# Altium footprint library QF.PcbLib: 196 footprints (part 5 of 13)
Each footprint in its own frame and in the unit in brackets; x right, y up, seen from the top. Pads: shape width x height; smd on the part's side, far side on the other; paste and mask are expansions set on the pad; w line width, h text height; cw(c..) or ccw(c..) is an arc to the next point about the centre after c.
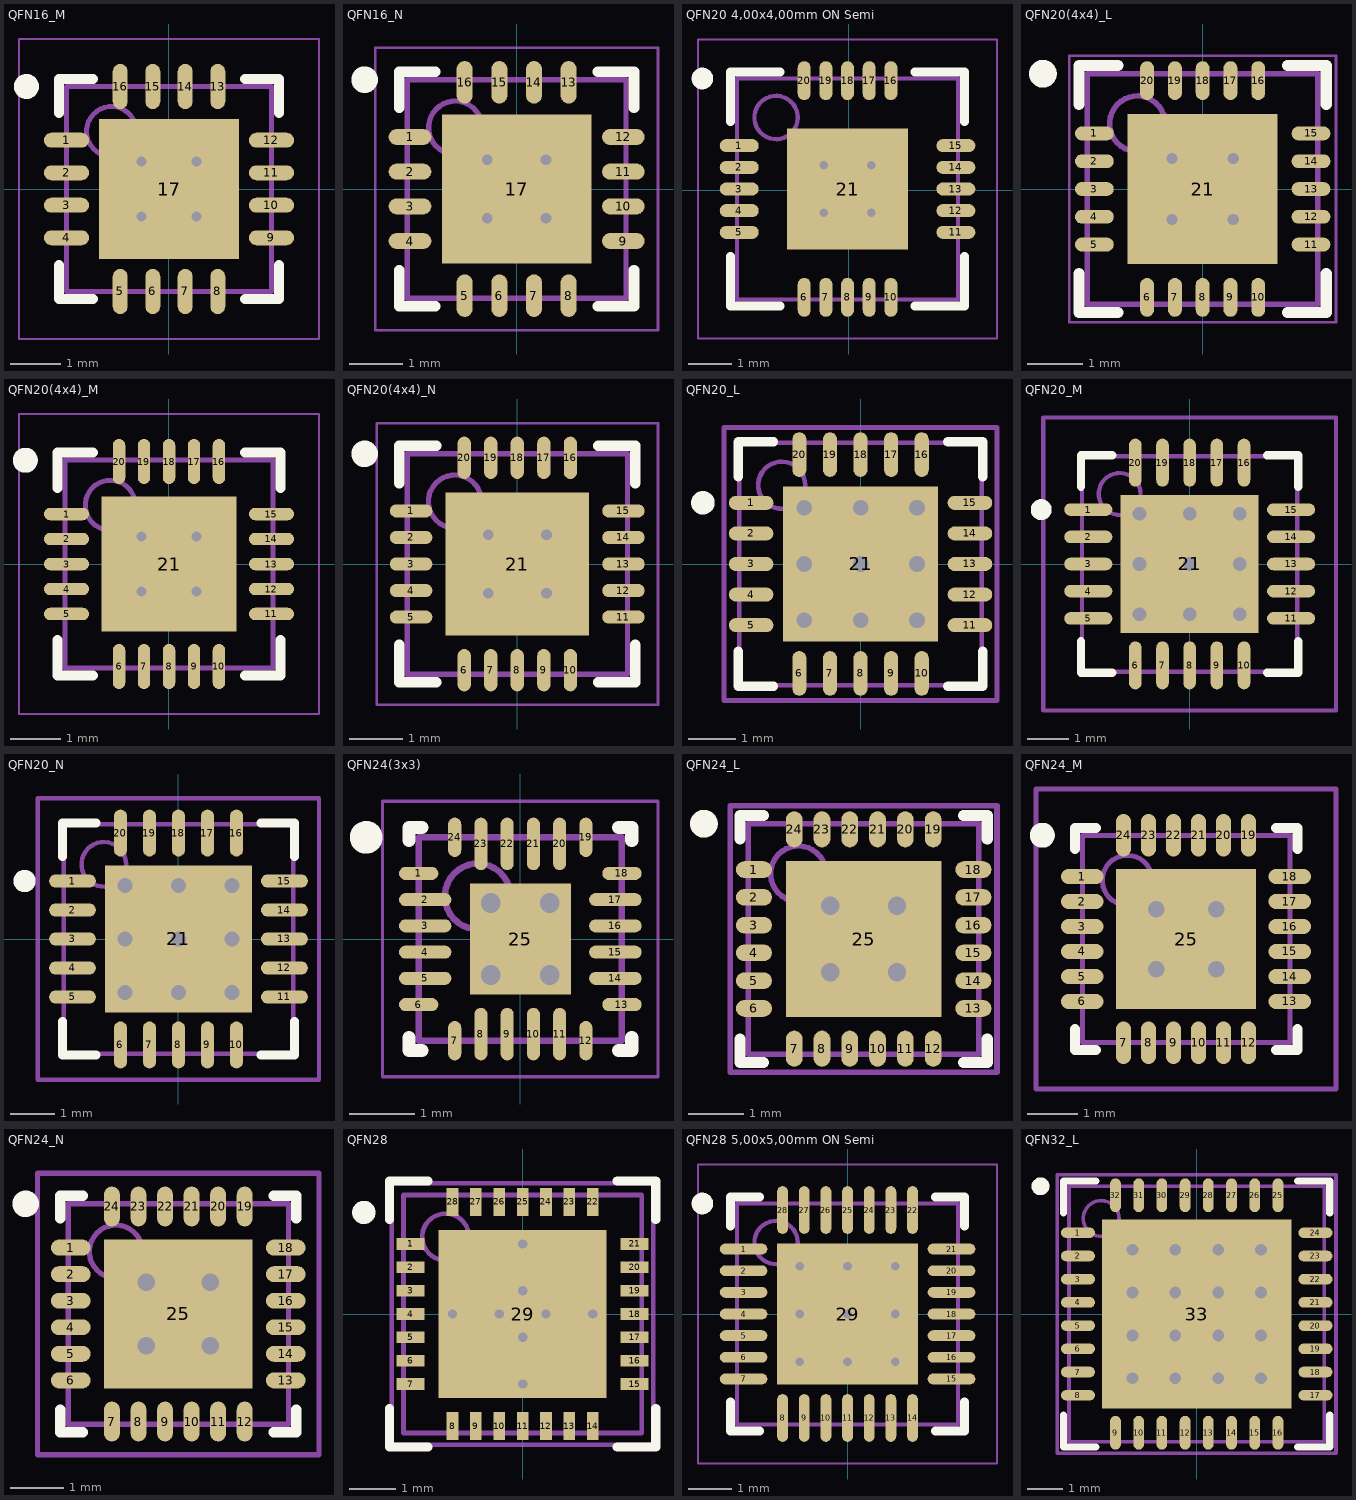
[diagram p4: the footprints below, top view; thin cyan lines are the x and y axes]

## QFN16_M [mm] "QFN, 16-Leads, Body 4x4mm, Pitch 0.65mm, Thermal Pad 2.8x2.8mm, IPC Low Density"
height 1
pads (17):
  oval 0.9x0.3 smd: 1(-2.05,0.975) 2(-2.05,0.325) 3(-2.05,-0.325) 4(-2.05,-0.975) 9(2.05,-0.975) 10(2.05,-0.325) 11(2.05,0.325) 12(2.05,0.975)
  oval 0.3x0.9 smd: 5(-0.975,-2.05) 6(-0.325,-2.05) 7(0.325,-2.05) 8(0.975,-2.05) 13(0.975,2.05) 14(0.325,2.05) 15(-0.325,2.05) 16(-0.975,2.05)
  rect 2.8x2.8 smd: 17(0,0)
via -0.55,0.55 diameter 0.5 hole 0.2
via 0.55,0.55 diameter 0.5 hole 0.2
via -0.55,-0.55 diameter 0.5 hole 0.2
via 0.55,-0.55 diameter 0.5 hole 0.2
Top Overlay:
  circle w0.25: c-2.85,2.05 r0.125
  lines w0.2: -2.2,-1.525 -2.2,-2.2 -1.525,-2.2 ; -2.2,1.525 -2.2,2.2 -1.525,2.2 ; 1.525,-2.2 2.2,-2.2 2.2,-1.525 ; 1.525,2.2 2.2,2.2 2.2,1.525
Mechanical 13:
  circle w0.1: c-1.15,1.15 r0.5
  lines w0.1: -2.05,-2.05 -2.05,2.05 2.05,2.05 2.05,-2.05 -2.05,-2.05
Mechanical 15:
  lines w0.05: -3,-3 -3,3 3,3 3,-3 -3,-3
  lines w0.1: -0.5,0 0.5,0 ; 0,-0.5 0,0.5
3D body: height 1, standoff 0, extent -2.05,-2.05 2.05,2.05

## QFN16_N [mm] "QFN, 16-Leads, Body 4x4mm, Pitch 0.65mm, Thermal Pad 2.8x2.8mm, IPC Medium Density"
height 1
pads (17):
  oval 0.8x0.3 smd: 1(-2,0.975) 2(-2,0.325) 3(-2,-0.325) 4(-2,-0.975) 9(2,-0.975) 10(2,-0.325) 11(2,0.325) 12(2,0.975)
  oval 0.3x0.8 smd: 5(-0.975,-2) 6(-0.325,-2) 7(0.325,-2) 8(0.975,-2) 13(0.975,2) 14(0.325,2) 15(-0.325,2) 16(-0.975,2)
  rect 2.8x2.8 smd: 17(0,0)
via -0.55,0.55 diameter 0.5 hole 0.2
via 0.55,0.55 diameter 0.5 hole 0.2
via -0.55,-0.55 diameter 0.5 hole 0.2
via 0.55,-0.55 diameter 0.5 hole 0.2
Top Overlay:
  circle w0.25: c-2.85,2.05 r0.125
  lines w0.2: -2.2,-1.525 -2.2,-2.2 -1.525,-2.2 ; -2.2,1.525 -2.2,2.2 -1.525,2.2 ; 1.525,-2.2 2.2,-2.2 2.2,-1.525 ; 1.525,2.2 2.2,2.2 2.2,1.525
Mechanical 13:
  circle w0.1: c-1.15,1.15 r0.5
  lines w0.1: -2.05,-2.05 -2.05,2.05 2.05,2.05 2.05,-2.05 -2.05,-2.05
Mechanical 15:
  lines w0.05: -2.65,-2.65 -2.65,2.65 2.65,2.65 2.65,-2.65 -2.65,-2.65
  lines w0.1: -0.5,0 0.5,0 ; 0,-0.5 0,0.5
3D body: height 1, standoff 0, extent -2.05,-2.05 2.05,2.05

## QFN20 4,00x4,00mm ON Semi [mm] "QFN20 4,00x4,00mm ON Semi"
height 1
pads (21):
  oval 0.9x0.3 smd: 1(-2.525,1.025) 2(-2.525,0.525) 3(-2.525,0.025) 4(-2.525,-0.475) 5(-2.525,-0.975) 11(2.475,-0.975) 12(2.475,-0.475) 13(2.475,0.025) 14(2.475,0.525) 15(2.475,1.025)
  oval 0.3x0.9 smd: 6(-1.025,-2.475) 7(-0.525,-2.475) 8(-0.025,-2.475) 9(0.475,-2.475) 10(0.975,-2.475) 16(0.975,2.525) 17(0.475,2.525) 18(-0.025,2.525) 19(-0.525,2.525) 20(-1.025,2.525)
  rect 2.8x2.8 smd: 21(-0.025,0.025)
via 0.525,-0.525 diameter 0.5 hole 0.2
via -0.575,-0.525 diameter 0.5 hole 0.2
via 0.525,0.575 diameter 0.5 hole 0.2
via -0.575,0.575 diameter 0.5 hole 0.2
Top Overlay:
  circle w0.25: c-3.375,2.575 r0.125
  lines w0.2: -2.725,-1.525 -2.725,-2.675 -1.575,-2.675 ; -2.725,1.575 -2.725,2.725 -1.575,2.725 ; 1.525,-2.675 2.675,-2.675 2.675,-1.525 ; 1.525,2.725 2.675,2.725 2.675,1.575
Mechanical 13:
  circle w0.1: c-1.675,1.675 r0.5
  lines w0.1: -2.575,-2.525 2.525,-2.525 2.525,2.575 -2.575,2.575 -2.575,-2.525
Mechanical 15:
  lines w0.05: -3.475,-3.425 3.425,-3.425 3.425,3.475 -3.475,3.475 -3.475,-3.425
  lines w0.1: -0.525,0.025 0.475,0.025 ; -0.025,-0.475 -0.025,0.525
3D body "QFN20 4,00x4,00mm ON Semi.step": height 1, standoff 0, extent -2.625,-2.575 2.575,2.625

## QFN20(4x4)_L [mm] "QFN, 20-Leads, Body 4x4mm, Pitch 0.5mm, Thermal Pad 2.7x2.7mm, IPC High Density"
height 1
pads (21):
  oval 0.7x0.25 smd: 1(-1.95,1) 2(-1.95,0.5) 3(-1.95,0) 4(-1.95,-0.5) 5(-1.95,-1) 11(1.95,-1) 12(1.95,-0.5) 13(1.95,0) 14(1.95,0.5) 15(1.95,1)
  oval 0.25x0.7 smd: 6(-1,-1.95) 7(-0.5,-1.95) 8(0,-1.95) 9(0.5,-1.95) 10(1,-1.95) 16(1,1.95) 17(0.5,1.95) 18(0,1.95) 19(-0.5,1.95) 20(-1,1.95)
  rect 2.7x2.7 smd: 21(0,0)
via -0.55,0.55 diameter 0.5 hole 0.2
via 0.55,0.55 diameter 0.5 hole 0.2
via -0.55,-0.55 diameter 0.5 hole 0.2
via 0.55,-0.55 diameter 0.5 hole 0.2
Top Overlay:
  circle w0.25: c-2.875,2.075 r0.125
  lines w0.2: -2.225,-1.525 -2.225,-2.225 -1.525,-2.225 ; -2.225,1.525 -2.225,2.225 -1.525,2.225 ; 1.525,-2.225 2.225,-2.225 2.225,-1.525 ; 1.525,2.225 2.225,2.225 2.225,1.525
Mechanical 13:
  circle w0.1: c-1.175,1.175 r0.5
  lines w0.1: -2.075,-2.075 -2.075,2.075 2.075,2.075 2.075,-2.075 -2.075,-2.075
Mechanical 15:
  lines w0.05: -2.4,-2.4 -2.4,2.4 2.4,2.4 2.4,-2.4 -2.4,-2.4
  lines w0.1: -0.5,0 0.5,0 ; 0,-0.5 0,0.5
3D body: height 1, standoff 0, extent -2.075,-2.075 2.075,2.075

## QFN20(4x4)_M [mm] "QFN, 20-Leads, Body 4x4mm, Pitch 0.5mm, Thermal Pad 2.7x2.7mm, IPC Low Density"
height 1
pads (21):
  oval 0.9x0.25 smd: 1(-2.05,1) 2(-2.05,0.5) 3(-2.05,0) 4(-2.05,-0.5) 5(-2.05,-1) 11(2.05,-1) 12(2.05,-0.5) 13(2.05,0) 14(2.05,0.5) 15(2.05,1)
  oval 0.25x0.9 smd: 6(-1,-2.05) 7(-0.5,-2.05) 8(0,-2.05) 9(0.5,-2.05) 10(1,-2.05) 16(1,2.05) 17(0.5,2.05) 18(0,2.05) 19(-0.5,2.05) 20(-1,2.05)
  rect 2.7x2.7 smd: 21(0,0)
via -0.55,0.55 diameter 0.5 hole 0.2
via 0.55,0.55 diameter 0.5 hole 0.2
via -0.55,-0.55 diameter 0.5 hole 0.2
via 0.55,-0.55 diameter 0.5 hole 0.2
Top Overlay:
  circle w0.25: c-2.875,2.075 r0.125
  lines w0.2: -2.225,-1.525 -2.225,-2.225 -1.525,-2.225 ; -2.225,1.525 -2.225,2.225 -1.525,2.225 ; 1.525,-2.225 2.225,-2.225 2.225,-1.525 ; 1.525,2.225 2.225,2.225 2.225,1.525
Mechanical 13:
  circle w0.1: c-1.175,1.175 r0.5
  lines w0.1: -2.075,-2.075 -2.075,2.075 2.075,2.075 2.075,-2.075 -2.075,-2.075
Mechanical 15:
  lines w0.05: -3,-3 -3,3 3,3 3,-3 -3,-3
  lines w0.1: -0.5,0 0.5,0 ; 0,-0.5 0,0.5
3D body: height 1, standoff 0, extent -2.075,-2.075 2.075,2.075

## QFN20(4x4)_N [mm] "QFN, 20-Leads, Body 4x4mm, Pitch 0.5mm, Thermal Pad 2.7x2.7mm, IPC Medium Density"
height 1
pads (21):
  oval 0.8x0.25 smd: 1(-2,1) 2(-2,0.5) 3(-2,0) 4(-2,-0.5) 5(-2,-1) 11(2,-1) 12(2,-0.5) 13(2,0) 14(2,0.5) 15(2,1)
  oval 0.25x0.8 smd: 6(-1,-2) 7(-0.5,-2) 8(0,-2) 9(0.5,-2) 10(1,-2) 16(1,2) 17(0.5,2) 18(0,2) 19(-0.5,2) 20(-1,2)
  rect 2.7x2.7 smd: 21(0,0)
via 0.55,-0.55 diameter 0.5 hole 0.2
via -0.55,-0.55 diameter 0.5 hole 0.2
via 0.55,0.55 diameter 0.5 hole 0.2
via -0.55,0.55 diameter 0.5 hole 0.2
Top Overlay:
  circle w0.25: c-2.875,2.075 r0.125
  lines w0.2: -2.225,-1.525 -2.225,-2.225 -1.525,-2.225 ; -2.225,1.525 -2.225,2.225 -1.525,2.225 ; 1.525,-2.225 2.225,-2.225 2.225,-1.525 ; 1.525,2.225 2.225,2.225 2.225,1.525
Mechanical 13:
  circle w0.1: c-1.175,1.175 r0.5
  lines w0.1: -2.075,-2.075 2.075,-2.075 2.075,2.075 -2.075,2.075 -2.075,-2.075
Mechanical 15:
  lines w0.05: -2.65,-2.65 2.65,-2.65 2.65,2.65 -2.65,2.65 -2.65,-2.65
  lines w0.1: -0.5,0 0.5,0 ; 0,-0.5 0,0.5
3D body: height 1, standoff 0, extent -2.075,-2.075 2.075,2.075

## QFN20_L [mm] "QFN, 20-Leads, Body 5x5 mm, Pitch 0.65mm, IPC High Density"
height 1
pads (21):
  oval 0.95x0.3 smd: 1(-2.325,1.3) 2(-2.325,0.65) 3(-2.325,0) 4(-2.325,-0.65) 5(-2.325,-1.3) 11(2.325,-1.3) 12(2.325,-0.65) 13(2.325,0) 14(2.325,0.65) 15(2.325,1.3)
  oval 0.3x0.95 smd: 6(-1.3,-2.325) 7(-0.65,-2.325) 8(0,-2.325) 9(0.65,-2.325) 10(1.3,-2.325) 16(1.3,2.325) 17(0.65,2.325) 18(0,2.325) 19(-0.65,2.325) 20(-1.3,2.325)
  rect 3.3x3.3 smd: 21(0,0)
via 1.2,-1.2 diameter 0.66 hole 0.33
via 0,-1.2 diameter 0.66 hole 0.33
via -1.2,-1.2 diameter 0.66 hole 0.33
via 1.2,0 diameter 0.66 hole 0.33
via 0,0 diameter 0.66 hole 0.33
via -1.2,0 diameter 0.66 hole 0.33
via 1.2,1.2 diameter 0.66 hole 0.33
via 0,1.2 diameter 0.66 hole 0.33
via -1.2,1.2 diameter 0.66 hole 0.33
Top Overlay:
  circle w0.25: c-3.35,1.3 r0.125
  lines w0.2: -2.6,-1.85 -2.6,-2.6 -1.85,-2.6 ; -2.6,1.85 -2.6,2.6 -1.85,2.6 ; 1.85,-2.6 2.6,-2.6 2.6,-1.85 ; 1.85,2.6 2.6,2.6 2.6,1.85
Mechanical 13:
  circle w0.1: c-1.675,1.675 r0.5
  lines w0.1: -2.575,-2.575 2.575,-2.575 2.575,2.575 -2.575,2.575 -2.575,-2.575
Mechanical 15:
  lines w0.1: -0.5,0 0.5,0 ; 0,-0.5 0,0.5 ; -2.9,-2.9 2.9,-2.9 2.9,2.9 -2.9,2.9 -2.9,-2.9
3D body "User Library-QFN20_065.step": height 0.9, standoff 0, extent -2.505,-2.505 2.505,2.505

## QFN20_M [mm] "QFN, 20-Leads, Body 5x5 mm, Pitch 0.65mm, IPC Low Density"
height 1
pads (21):
  oval 1.15x0.3 smd: 1(-2.425,1.3) 2(-2.425,0.65) 3(-2.425,0) 4(-2.425,-0.65) 5(-2.425,-1.3) 11(2.425,-1.3) 12(2.425,-0.65) 13(2.425,0) 14(2.425,0.65) 15(2.425,1.3)
  oval 0.3x1.15 smd: 6(-1.3,-2.425) 7(-0.65,-2.425) 8(0,-2.425) 9(0.65,-2.425) 10(1.3,-2.425) 16(1.3,2.425) 17(0.65,2.425) 18(0,2.425) 19(-0.65,2.425) 20(-1.3,2.425)
  rect 3.3x3.3 smd: 21(0,0)
via 1.2,-1.2 diameter 0.66 hole 0.33
via 0,-1.2 diameter 0.66 hole 0.33
via -1.2,-1.2 diameter 0.66 hole 0.33
via 1.2,0 diameter 0.66 hole 0.33
via 0,0 diameter 0.66 hole 0.33
via -1.2,0 diameter 0.66 hole 0.33
via 1.2,1.2 diameter 0.66 hole 0.33
via 0,1.2 diameter 0.66 hole 0.33
via -1.2,1.2 diameter 0.66 hole 0.33
Top Overlay:
  circle w0.25: c-3.55,1.3 r0.125
  lines w0.2: -2.6,-1.85 -2.6,-2.6 -1.85,-2.6 ; -2.6,1.85 -2.6,2.6 -1.85,2.6 ; 1.85,-2.6 2.6,-2.6 2.6,-1.85 ; 1.85,2.6 2.6,2.6 2.6,1.85
Mechanical 13:
  circle w0.1: c-1.675,1.675 r0.5
  lines w0.1: -2.575,-2.575 2.575,-2.575 2.575,2.575 -2.575,2.575 -2.575,-2.575
Mechanical 15:
  lines w0.1: -0.5,0 0.5,0 ; 0,-0.5 0,0.5 ; -3.5,-3.5 3.5,-3.5 3.5,3.5 -3.5,3.5 -3.5,-3.5
3D body: height 1, standoff 0, extent -2.575,-2.575 2.575,2.575

## QFN20_N [mm] "QFN, 20-Leads, Body 5x5 mm, Pitch 0.65mm, IPC Medium Density"
height 1
pads (21):
  oval 1.05x0.3 smd: 1(-2.375,1.3) 2(-2.375,0.65) 3(-2.375,0) 4(-2.375,-0.65) 5(-2.375,-1.3) 11(2.375,-1.3) 12(2.375,-0.65) 13(2.375,0) 14(2.375,0.65) 15(2.375,1.3)
  oval 0.3x1.05 smd: 6(-1.3,-2.375) 7(-0.65,-2.375) 8(0,-2.375) 9(0.65,-2.375) 10(1.3,-2.375) 16(1.3,2.375) 17(0.65,2.375) 18(0,2.375) 19(-0.65,2.375) 20(-1.3,2.375)
  rect 3.3x3.3 smd: 21(0,0)
via 1.2,-1.2 diameter 0.66 hole 0.33
via 0,-1.2 diameter 0.66 hole 0.33
via -1.2,-1.2 diameter 0.66 hole 0.33
via 1.2,0 diameter 0.66 hole 0.33
via 0,0 diameter 0.66 hole 0.33
via -1.2,0 diameter 0.66 hole 0.33
via 1.2,1.2 diameter 0.66 hole 0.33
via 0,1.2 diameter 0.66 hole 0.33
via -1.2,1.2 diameter 0.66 hole 0.33
Top Overlay:
  circle w0.25: c-3.45,1.3 r0.125
  lines w0.2: -2.6,-1.85 -2.6,-2.6 -1.85,-2.6 ; -2.6,1.85 -2.6,2.6 -1.85,2.6 ; 1.85,-2.6 2.6,-2.6 2.6,-1.85 ; 1.85,2.6 2.6,2.6 2.6,1.85
Mechanical 13:
  circle w0.1: c-1.675,1.675 r0.5
  lines w0.1: -2.575,-2.575 2.575,-2.575 2.575,2.575 -2.575,2.575 -2.575,-2.575
Mechanical 15:
  lines w0.1: -0.5,0 0.5,0 ; 0,-0.5 0,0.5 ; -3.15,-3.15 3.15,-3.15 3.15,3.15 -3.15,3.15 -3.15,-3.15
3D body: height 1, standoff 0, extent -2.575,-2.575 2.575,2.575

## QFN24(3x3) [mm] "QFN, 24-Leads, Body 3,00x3,00mm, Pitch 0,40mm, Thermal Pad 1,54x1,70mm, IPC Medium Density"
height 1
pads (25):
  oval 0.6x0.2 smd: 1(-1.55,1) 6(-1.55,-1) 13(1.55,-1) 18(1.55,1)
  oval 0.8x0.2 smd: 2(-1.45,0.6) 3(-1.45,0.2) 4(-1.45,-0.2) 5(-1.45,-0.6) 14(1.45,-0.6) 15(1.45,-0.2) 16(1.45,0.2) 17(1.45,0.6)
  oval 0.2x0.6 smd: 7(-1,-1.55) 12(1,-1.55) 19(1,1.55) 24(-1,1.55)
  oval 0.2x0.8 smd: 8(-0.6,-1.45) 9(-0.2,-1.45) 10(0.2,-1.45) 11(0.6,-1.45) 20(0.6,1.45) 21(0.2,1.45) 22(-0.2,1.45) 23(-0.6,1.45)
  rect 1.54x1.7 smd: 25(0,0)
via -0.45,-0.55 diameter 0.5 hole 0.3
via 0.45,-0.55 diameter 0.5 hole 0.3
via 0.45,0.55 diameter 0.5 hole 0.3
via -0.45,0.55 diameter 0.5 hole 0.3
Top Overlay:
  circle w0.25: c-2.35,1.55 r0.125
  lines w0.2: -1.7,-1.5 -1.7,-1.7 -1.5,-1.7 ; -1.7,1.5 -1.7,1.7 -1.5,1.7 ; 1.5,-1.7 1.7,-1.7 1.7,-1.5 ; 1.5,1.7 1.7,1.7 1.7,1.5
Mechanical 13:
  circle w0.1: c-0.65,0.65 r0.5
  lines w0.1: -1.55,-1.55 -1.55,1.55 1.55,1.55 1.55,-1.55 -1.55,-1.55
Mechanical 15:
  lines w0.05: -2.1,-2.1 -2.1,2.1 2.1,2.1 2.1,-2.1 -2.1,-2.1
  lines w0.1: -0.5,0 0.5,0 ; 0,-0.5 0,0.5
3D body "QFN40P300X300X100_HS-25N.step": height 1, standoff 0, extent -1.57,-1.57 1.57,1.57

## QFN24_L [mm] "QFN, 24-Leads, Body 4x4mm, Pitch 0.5mm, IPC High Density"
height 1
pads (25):
  oval 0.65x0.3 smd: 1(-5081.975,-5078.75) 2(-5081.975,-5079.25) 3(-5081.975,-5079.75) 4(-5081.975,-5080.25) 5(-5081.975,-5080.75) 6(-5081.975,-5081.25) 13(-5078.025,-5081.25) 14(-5078.025,-5080.75) 15(-5078.025,-5080.25) 16(-5078.025,-5079.75) 17(-5078.025,-5079.25) 18(-5078.025,-5078.75)
  oval 0.3x0.65 smd: 7(-5081.25,-5081.975) 8(-5080.75,-5081.975) 9(-5080.25,-5081.975) 10(-5079.75,-5081.975) 11(-5079.25,-5081.975) 12(-5078.75,-5081.975) 19(-5078.75,-5078.025) 20(-5079.25,-5078.025) 21(-5079.75,-5078.025) 22(-5080.25,-5078.025) 23(-5080.75,-5078.025) 24(-5081.25,-5078.025)
  rect 2.8x2.8 smd: 25(-5080,-5080)
via -5080.6,-5079.4 diameter 0.66 hole 0.33
via -5079.4,-5079.4 diameter 0.66 hole 0.33
via -5080.6,-5080.6 diameter 0.66 hole 0.33
via -5079.4,-5080.6 diameter 0.66 hole 0.33
Top Overlay:
  circle w0.25: c-5082.875,-5077.925 r0.125
  lines w0.2: -5082.225,-5081.8 -5082.225,-5082.225 -5081.8,-5082.225 ; -5082.225,-5078.2 -5082.225,-5077.775 -5081.8,-5077.775 ; -5078.2,-5082.225 -5077.775,-5082.225 -5077.775,-5081.8 ; -5078.2,-5077.775 -5077.775,-5077.775 -5077.775,-5078.2
Mechanical 13:
  circle w0.1: c-5081.175,-5078.825 r0.5
  lines w0.1: -5082.075,-5082.075 -5082.075,-5077.925 -5077.925,-5077.925 -5077.925,-5082.075 -5082.075,-5082.075
Mechanical 15:
  lines w0.1: -5080.5,-5080 -5079.5,-5080 ; -5080,-5080.5 -5080,-5079.5 ; -5082.4,-5082.4 -5082.4,-5077.6 -5077.6,-5077.6 -5077.6,-5082.4 -5082.4,-5082.4
3D body "VQFN-24.step": height 1, standoff -0.07, extent -5082.05,-5082.068 -5077.95,-5077.968

## QFN24_M [mm] "QFN, 24-Leads, Body 4x4mm, Pitch 0.5mm, IPC Low Density"
height 1
pads (25):
  oval 0.85x0.3 smd: 1(-4917.556,-4914.231) 2(-4917.556,-4914.731) 3(-4917.556,-4915.231) 4(-4917.556,-4915.731) 5(-4917.556,-4916.231) 6(-4917.556,-4916.731) 13(-4913.406,-4916.731) 14(-4913.406,-4916.231) 15(-4913.406,-4915.731) 16(-4913.406,-4915.231) 17(-4913.406,-4914.731) 18(-4913.406,-4914.231)
  oval 0.3x0.85 smd: 7(-4916.731,-4917.556) 8(-4916.231,-4917.556) 9(-4915.731,-4917.556) 10(-4915.231,-4917.556) 11(-4914.731,-4917.556) 12(-4914.231,-4917.556) 19(-4914.231,-4913.406) 20(-4914.731,-4913.406) 21(-4915.231,-4913.406) 22(-4915.731,-4913.406) 23(-4916.231,-4913.406) 24(-4916.731,-4913.406)
  rect 2.8x2.8 smd: 25(-4915.481,-4915.481)
via -4914.881,-4916.081 diameter 0.66 hole 0.33
via -4916.081,-4916.081 diameter 0.66 hole 0.33
via -4914.881,-4914.881 diameter 0.66 hole 0.33
via -4916.081,-4914.881 diameter 0.66 hole 0.33
Top Overlay:
  circle w0.25: c-4918.356,-4913.406 r0.125
  lines w0.2: -4917.706,-4917.281 -4917.706,-4917.706 -4917.281,-4917.706 ; -4917.706,-4913.681 -4917.706,-4913.256 -4917.281,-4913.256 ; -4913.681,-4917.706 -4913.256,-4917.706 -4913.256,-4917.281 ; -4913.681,-4913.256 -4913.256,-4913.256 -4913.256,-4913.681
Mechanical 13:
  circle w0.1: c-4916.656,-4914.306 r0.5
  lines w0.1: -4917.556,-4917.556 -4913.406,-4917.556 -4913.406,-4913.406 -4917.556,-4913.406 -4917.556,-4917.556
Mechanical 15:
  lines w0.1: -4915.981,-4915.481 -4914.981,-4915.481 ; -4915.481,-4915.981 -4915.481,-4914.981 ; -4918.481,-4918.481 -4912.481,-4918.481 -4912.481,-4912.481 -4918.481,-4912.481 -4918.481,-4918.481
3D body: height 1, standoff 0, extent -81282.075,-81282.075 -81277.925,-81277.925

## QFN24_N [mm] "QFN, 24-Leads, Body 4x4mm, Pitch 0.5mm, IPC Medium Density"
height 1
pads (25):
  oval 0.75x0.3 smd: 1(-2542.025,-2538.75) 2(-2542.025,-2539.25) 3(-2542.025,-2539.75) 4(-2542.025,-2540.25) 5(-2542.025,-2540.75) 6(-2542.025,-2541.25) 13(-2537.975,-2541.25) 14(-2537.975,-2540.75) 15(-2537.975,-2540.25) 16(-2537.975,-2539.75) 17(-2537.975,-2539.25) 18(-2537.975,-2538.75)
  oval 0.3x0.75 smd: 7(-2541.25,-2542.025) 8(-2540.75,-2542.025) 9(-2540.25,-2542.025) 10(-2539.75,-2542.025) 11(-2539.25,-2542.025) 12(-2538.75,-2542.025) 19(-2538.75,-2537.975) 20(-2539.25,-2537.975) 21(-2539.75,-2537.975) 22(-2540.25,-2537.975) 23(-2540.75,-2537.975) 24(-2541.25,-2537.975)
  rect 2.8x2.8 smd: 25(-2540,-2540)
via -2539.4,-2540.6 diameter 0.66 hole 0.33
via -2540.6,-2540.6 diameter 0.66 hole 0.33
via -2539.4,-2539.4 diameter 0.66 hole 0.33
via -2540.6,-2539.4 diameter 0.66 hole 0.33
Top Overlay:
  circle w0.25: c-2542.875,-2537.925 r0.125
  lines w0.2: -2542.225,-2541.8 -2542.225,-2542.225 -2541.8,-2542.225 ; -2542.225,-2538.2 -2542.225,-2537.775 -2541.8,-2537.775 ; -2538.2,-2542.225 -2537.775,-2542.225 -2537.775,-2541.8 ; -2538.2,-2537.775 -2537.775,-2537.775 -2537.775,-2538.2
Mechanical 13:
  circle w0.1: c-2541.175,-2538.825 r0.5
  lines w0.1: -2542.075,-2542.075 -2537.925,-2542.075 -2537.925,-2537.925 -2542.075,-2537.925 -2542.075,-2542.075
Mechanical 15:
  lines w0.1: -2540.5,-2540 -2539.5,-2540 ; -2540,-2540.5 -2540,-2539.5 ; -2542.65,-2542.65 -2537.35,-2542.65 -2537.35,-2537.35 -2542.65,-2537.35 -2542.65,-2542.65
3D body "QFN24(4X4).STEP": height -0.4, standoff -1.3, extent -2542.01,-2542.01 -2537.99,-2537.99

## QFN28 [mm] "QFN, 28-Leads, Body 5x5mm, Pitch 0.5mm, NSC Recommended"
height 1
pads (29):
  rect 0.6x0.25 smd paste-0.125 mask+0.051: 1(-2.4,1.5) 2(-2.4,1) 3(-2.4,0.5) 4(-2.4,0) 5(-2.4,-0.5) 6(-2.4,-1) 7(-2.4,-1.5) 15(2.4,-1.5) 16(2.4,-1) 17(2.4,-0.5) 18(2.4,0) 19(2.4,0.5) 20(2.4,1) 21(2.4,1.5)
  rect 0.25x0.6 smd paste-0.125 mask+0.051: 8(-1.5,-2.4) 9(-1,-2.4) 10(-0.5,-2.4) 11(0,-2.4) 12(0.5,-2.4) 13(1,-2.4) 14(1.5,-2.4) 22(1.5,2.4) 23(1,2.4) 24(0.5,2.4) 25(0,2.4) 26(-0.5,2.4) 27(-1,2.4) 28(-1.5,2.4)
  rect 3.6x3.6 smd paste-1.8 mask+0.051: 29(0,0)
via 0,0.5 diameter 0.5 hole 0.2
via 0,-0.5 diameter 0.5 hole 0.2
via 0.5,0 diameter 0.5 hole 0.2
via -0.5,0 diameter 0.5 hole 0.2
via 1.5,0 diameter 0.5 hole 0.2
via 0,1.5 diameter 0.5 hole 0.2
via 0,-1.5 diameter 0.5 hole 0.2
via -1.5,0 diameter 0.5 hole 0.2
Top Overlay:
  circle w0.25: c-3.4,2.175 r0.125
  lines w0.2: -2.85,-2.025 -2.85,-2.85 -2.025,-2.85 ; -2.85,2.025 -2.85,2.85 -2.025,2.85 ; 2.025,-2.85 2.85,-2.85 2.85,-2.025 ; 2.025,2.85 2.85,2.85 2.85,2.025
Top Paste:
  rectangle: -2.9,1.375 -2.2,1.625
  rectangle: -2.9,0.875 -2.2,1.125
  rectangle: -2.9,0.375 -2.2,0.625
  rectangle: -2.9,-0.125 -2.2,0.125
  rectangle: -2.9,-0.625 -2.2,-0.375
  rectangle: -2.9,-1.125 -2.2,-0.875
  rectangle: -2.9,-1.625 -2.2,-1.375
  region: 2.9,-1.375 2.2,-1.375 2.2,-1.625 2.9,-1.625
  region: 2.9,-0.875 2.2,-0.875 2.2,-1.125 2.9,-1.125
  region: 2.9,-0.375 2.2,-0.375 2.2,-0.625 2.9,-0.625
  region: 2.9,0.125 2.2,0.125 2.2,-0.125 2.9,-0.125
  region: 2.9,0.625 2.2,0.625 2.2,0.375 2.9,0.375
  region: 2.9,1.125 2.2,1.125 2.2,0.875 2.9,0.875
  region: 2.9,1.625 2.2,1.625 2.2,1.375 2.9,1.375
  region: 1.375,2.9 1.375,2.2 1.625,2.2 1.625,2.9
  region: 0.875,2.9 0.875,2.2 1.125,2.2 1.125,2.9
  region: 0.375,2.9 0.375,2.2 0.625,2.2 0.625,2.9
  region: -0.125,2.9 -0.125,2.2 0.125,2.2 0.125,2.9
  region: -0.625,2.9 -0.625,2.2 -0.375,2.2 -0.375,2.9
  region: -1.125,2.9 -1.125,2.2 -0.875,2.2 -0.875,2.9
  region: -1.625,2.9 -1.625,2.2 -1.375,2.2 -1.375,2.9
  region: 1.625,-2.9 1.625,-2.2 1.375,-2.2 1.375,-2.9
  region: 1.125,-2.9 1.125,-2.2 0.875,-2.2 0.875,-2.9
  region: 0.625,-2.9 0.625,-2.2 0.375,-2.2 0.375,-2.9
  region: 0.125,-2.9 0.125,-2.2 -0.125,-2.2 -0.125,-2.9
  region: -0.375,-2.9 -0.375,-2.2 -0.625,-2.2 -0.625,-2.9
  region: -0.875,-2.9 -0.875,-2.2 -1.125,-2.2 -1.125,-2.9
  region: -1.375,-2.9 -1.375,-2.2 -1.625,-2.2 -1.625,-2.9
  rectangle: 0.15,0.15 1.7,1.7
  region: -0.15,1.7 -1.7,1.7 -1.7,0.15 -0.15,0.15
  region: -0.15,-0.15 -1.7,-0.15 -1.7,-1.7 -0.15,-1.7
  rectangle: 0.15,-1.7 1.7,-0.15
Mechanical 13:
  circle w0.1: c-1.65,1.65 r0.5
  lines w0.1: -2.55,-2.55 2.55,-2.55 2.55,2.55 -2.55,2.55 -2.55,-2.55
Mechanical 15:
  lines w0.1: -0.5,0 0.5,0 ; 0,-0.5 0,0.5 ; -2.8,-2.8 2.8,-2.8 2.8,2.8 -2.8,2.8 -2.8,-2.8
3D body: height 1, standoff 0, extent -2.55,-2.55 2.55,2.55

## QFN28 5,00x5,00mm ON Semi [mm] "QFN, 28-Leads, Body 5,00x5,00mm, Pitch 0,50mm, Thermal Pad 3,25x3,25mm, IPC Low Density"
height 0.9
pads (29):
  oval 1.1x0.25 smd: 1(-2.4,1.5) 2(-2.4,1) 3(-2.4,0.5) 4(-2.4,0) 5(-2.4,-0.5) 6(-2.4,-1) 7(-2.4,-1.5) 15(2.4,-1.5) 16(2.4,-1) 17(2.4,-0.5) 18(2.4,0) 19(2.4,0.5) 20(2.4,1) 21(2.4,1.5)
  oval 0.25x1.1 smd: 8(-1.5,-2.4) 9(-1,-2.4) 10(-0.5,-2.4) 11(0,-2.4) 12(0.5,-2.4) 13(1,-2.4) 14(1.5,-2.4) 22(1.5,2.4) 23(1,2.4) 24(0.5,2.4) 25(0,2.4) 26(-0.5,2.4) 27(-1,2.4) 28(-1.5,2.4)
  rect 3.25x3.25 smd: 29(0,0)
via -1.1,1.1 diameter 0.5 hole 0.2
via 0,1.1 diameter 0.5 hole 0.2
via 1.1,1.1 diameter 0.5 hole 0.2
via -1.1,0 diameter 0.5 hole 0.2
via 0,0 diameter 0.5 hole 0.2
via 1.1,0 diameter 0.5 hole 0.2
via -1.1,-1.1 diameter 0.5 hole 0.2
via 0,-1.1 diameter 0.5 hole 0.2
via 1.1,-1.1 diameter 0.5 hole 0.2
Top Overlay:
  circle w0.25: c-3.35,2.55 r0.125
  lines w0.2: -2.7,-2.025 -2.7,-2.7 -2.025,-2.7 ; -2.7,2.025 -2.7,2.7 -2.025,2.7 ; 2.025,-2.7 2.7,-2.7 2.7,-2.025 ; 2.025,2.7 2.7,2.7 2.7,2.025
Mechanical 13:
  circle w0.1: c-1.65,1.65 r0.5
  lines w0.1: -2.55,-2.55 -2.55,2.55 2.55,2.55 2.55,-2.55 -2.55,-2.55
Mechanical 15:
  lines w0.05: -3.45,-3.45 -3.45,3.45 3.45,3.45 3.45,-3.45 -3.45,-3.45
  lines w0.1: -0.5,0 0.5,0 ; 0,-0.5 0,0.5
3D body "ON Semi QFN28 5,00x5,00mm.step": height 0.9, standoff 0, extent -2.6,-2.6 2.6,2.6

## QFN32_L [mm] "QFN, 32-Leads, Body 7x7 mm, Pitch 0.65mm, IPC High Density"
height 1
pads (33):
  oval 0.95x0.3 smd: 1(-3.325,2.275) 2(-3.325,1.625) 3(-3.325,0.975) 4(-3.325,0.325) 5(-3.325,-0.325) 6(-3.325,-0.975) 7(-3.325,-1.625) 8(-3.325,-2.275) 17(3.325,-2.275) 18(3.325,-1.625) 19(3.325,-0.975) 20(3.325,-0.325) 21(3.325,0.325) 22(3.325,0.975) 23(3.325,1.625) 24(3.325,2.275)
  oval 0.3x0.95 smd: 9(-2.275,-3.325) 10(-1.625,-3.325) 11(-0.975,-3.325) 12(-0.325,-3.325) 13(0.325,-3.325) 14(0.975,-3.325) 15(1.625,-3.325) 16(2.275,-3.325) 25(2.275,3.325) 26(1.625,3.325) 27(0.975,3.325) 28(0.325,3.325) 29(-0.325,3.325) 30(-0.975,3.325) 31(-1.625,3.325) 32(-2.275,3.325)
  rect 5.3x5.3 smd: 33(0,0)
via 1.8,-1.8 diameter 0.66 hole 0.33
via 0.6,-1.8 diameter 0.66 hole 0.33
via -0.6,-1.8 diameter 0.66 hole 0.33
via -1.8,-1.8 diameter 0.66 hole 0.33
via 1.8,-0.6 diameter 0.66 hole 0.33
via 0.6,-0.6 diameter 0.66 hole 0.33
via -0.6,-0.6 diameter 0.66 hole 0.33
via -1.8,-0.6 diameter 0.66 hole 0.33
via 1.8,0.6 diameter 0.66 hole 0.33
via 0.6,0.6 diameter 0.66 hole 0.33
via -0.6,0.6 diameter 0.66 hole 0.33
via -1.8,0.6 diameter 0.66 hole 0.33
via 1.8,1.8 diameter 0.66 hole 0.33
via 0.6,1.8 diameter 0.66 hole 0.33
via -0.6,1.8 diameter 0.66 hole 0.33
via -1.8,1.8 diameter 0.66 hole 0.33
Top Overlay:
  circle w0.25: c-4.375,3.575 r0.125
  lines w0.2: -3.725,-2.825 -3.725,-3.725 -2.825,-3.725 ; -3.725,2.825 -3.725,3.725 -2.825,3.725 ; 2.825,-3.725 3.725,-3.725 3.725,-2.825 ; 2.825,3.725 3.725,3.725 3.725,2.825
Mechanical 13:
  circle w0.1: c-2.675,2.675 r0.5
  lines w0.1: -3.575,-3.575 3.575,-3.575 3.575,3.575 -3.575,3.575 -3.575,-3.575
Mechanical 15:
  lines w0.1: -0.5,0 0.5,0 ; 0,-0.5 0,0.5 ; -3.9,-3.9 3.9,-3.9 3.9,3.9 -3.9,3.9 -3.9,-3.9
3D body: height 1, standoff 0, extent -3.575,-3.575 3.575,3.575